# Altium footprint library Cinch.PcbLib: 1 footprints
Each footprint in its own frame and in the unit in brackets; x right, y up, seen from the top. Pads: shape width x height; smd on the part's side, far side on the other; paste and mask are expansions set on the pad; w line width, h text height; cw(c..) or ccw(c..) is an arc to the next point about the centre after c.
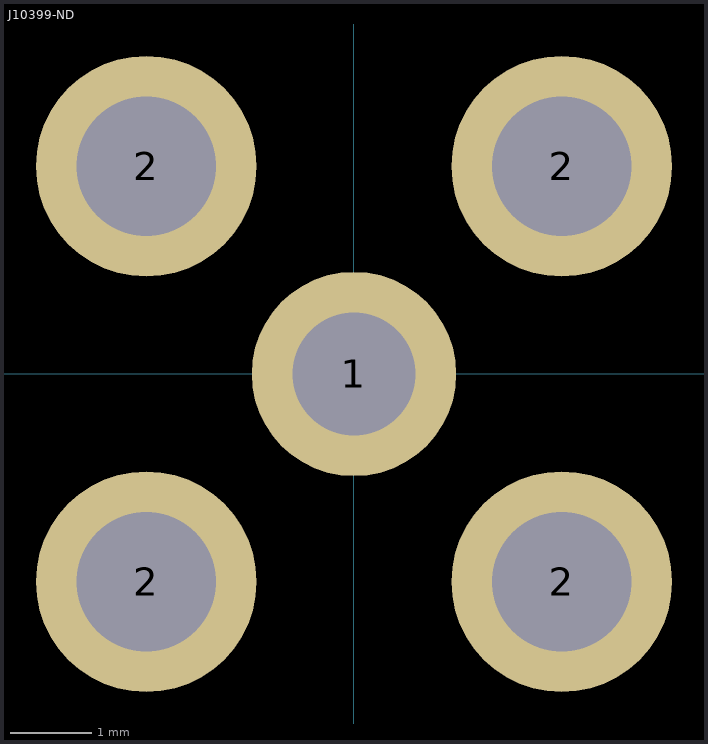
[diagram p0: the footprint, top view; thin cyan lines are the x and y axes]

## J10399-ND [mm] "CONN SMB PLUG R/A 50OHM PCB"
pads (5):
  round 2.5 hole 1.5: 1(0,0)
  round 2.7 hole 1.7: 2(-2.54,-2.54) 2(-2.54,2.54) 2(2.54,-2.54) 2(2.54,2.54)
3D body "96f7640_414026-3.SLDPRT": height 8.72, standoff -3.92, extent -3.175,-10.2 3.175,3.186